# Altium schematic symbol library EFM HOSC.SchLib: 1 symbol
Pins are listed as number, name and electrical type; pins without a type are passive.

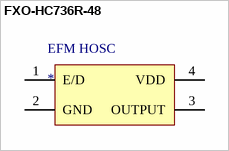
[diagram p0: symbol FXO-HC736R-48]

## FXO-HC736R-48
designator EFM HOSC
footprint Model Name (Footprint not found)
footprint FPGA-OSC
pins: 1 E/D, 2 GND, 3 OUTPUT, 4 VDD